# Altium schematic symbol library STM32F103.SchLib: 2 symbols
Pins are listed as number, name and electrical type; pins without a type are passive.

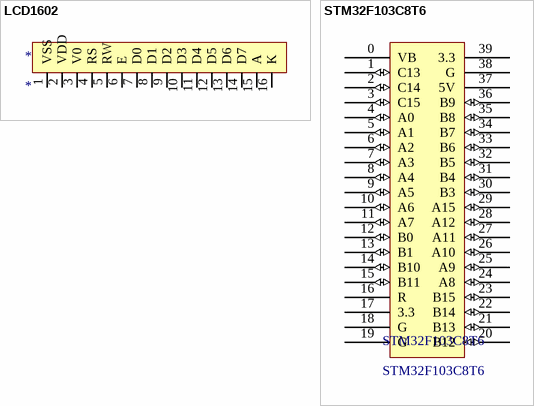
[diagram p0: symbols LCD1602 to STM32F103C8T6]

## LCD1602
designator *
pins: 1 VSS, 2 VDD, 3 V0, 4 RS, 5 RW, 6 E, 7 D0, 8 D1, 9 D2, 10 D3, 11 D4, 12 D5, 13 D6, 14 D7, 15 A, 16 K

## STM32F103C8T6
designator STM32F103C8T6
pins: 0 VB, 1 C13 (io), 2 C14 (io), 3 C15 (io), 4 A0 (io), 5 A1 (io), 6 A2 (io), 7 A3 (io), 8 A4 (io), 9 A5 (io), 10 A6 (io), 11 A7 (io), 12 B0 (io), 13 B1 (io), 14 B10 (io), 15 B11 (io), 16 R, 17 3.3 (power), 18 G (power), 19 G (power), 20 B12 (io), 21 B13 (io), 22 B14 (io), 23 B15 (io), 24 A8 (io), 25 A9 (io), 26 A10 (io), 27 A11 (io), 28 A12 (io), 29 A15 (io), 30 B3 (io), 31 B4 (io), 32 B5 (io), 33 B6 (io), 34 B7 (io), 35 B8 (io), 36 B9 (io), 37 5V (power), 38 G (power), 39 3.3 (power)